# EAGLE library part CAT24C256 (library bbb-cc2520)
256kb Serial CMOS EEPROM, organized as 32,768 words of 8 bits each
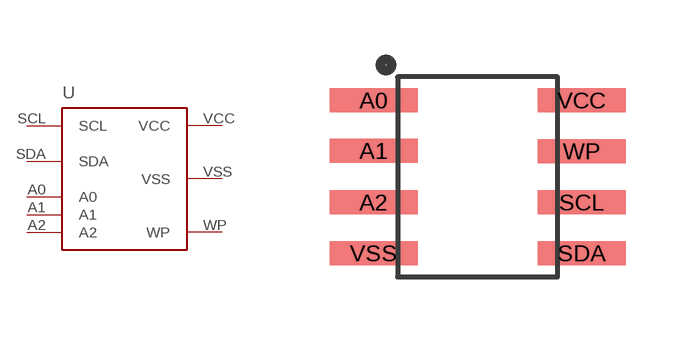
[diagram p2: symbol with the pads of CAT24C256WI-GT3; footprint CAT24C256WI-GT3]

Designator prefix -

## CAT24C256WI-GT3  [CAT24C256WI-GT3]
A0  A0
A1  A1
A2  A2
SCL  SCL
SDA  SDA
VCC  VCC
VSS  VSS
WP  WP

## Footprint CAT24C256WI-GT3 (pad centres in mm)
smd 2.2 x 0.6: A0 -2.6,1.91; A1 -2.6,0.65; A2 -2.6,-0.64; SCL 2.6,-0.64; SDA 2.6,-1.91; VCC 2.6,1.91; VSS -2.6,-1.91; WP 2.6,0.64